# Altium integrated library PCA9540BDP.IntLib: 1 symbol
Pins are listed as number, name and electrical type; pins without a type are passive.

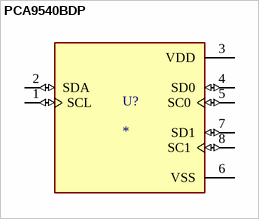
[diagram p0: symbol PCA9540BDP]

## PCA9540BDP
designator U?
2-Channel IÂ²C Multiplexer Interface 8-TSSOP; MF: NXP USA; MP: PCA9540BDP; SnapEDA_Link: https://www.snapeda.com/parts/PCA9540BDP/NXP%20USA%20Inc./view-part/741295/?ref=snap; Availability: Bad; Value: *; Check_prices: https://www.snapeda.com/parts/PCA9540BDP/NXP%20USA%20Inc./view-part/741295/?ref=eda; Package: TSSOP-8 NXP Semiconductors; Price: None
footprint SOP65P490X110-8N
pins: 1 SCL (io), 2 SDA (io), 3 VDD (power), 4 SD0 (io), 5 SC0 (io), 6 VSS (power), 7 SD1 (io), 8 SC1 (io)